# Altium schematic symbol library ADV7280.SchLib: 1 symbol
Pins are listed as number, name and electrical type; pins without a type are passive.

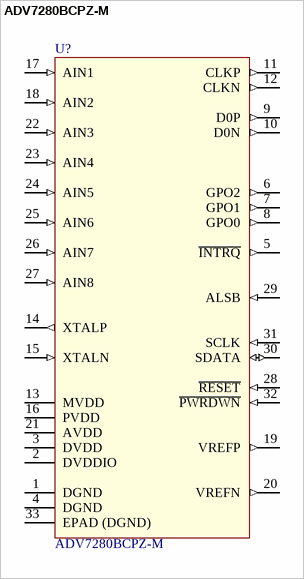
[diagram p0: symbol ADV7280BCPZ-M]

## ADV7280BCPZ-M
designator U?
10-Bit, 4xOversampling SDTV Video Decoder; Value: ADV7280BCPZ-M
footprint CP-32-12 (32-Lead Lead Frame Chip Scale Package 5?5mm Body, Very Very Thin Quad  (CP-32-12))
pins: 1 DGND (power), 2 DVDDIO (power), 3 DVDD (power), 4 DGND (power), 5 ~{INTRQ} (out), 6 GPO2 (out), 7 GPO1 (out), 8 GPO0 (out), 9 D0P (out), 10 D0N (out), 11 CLKP (out), 12 CLKN (out), 13 MVDD (power), 14 XTALP (out), 15 XTALN (in), 16 PVDD (power), 17 AIN1 (in), 18 AIN2 (in), 19 VREFP (out), 20 VREFN (out), 21 AVDD (power), 22 AIN3 (in), 23 AIN4 (in), 24 AIN5 (in), 25 AIN6 (in), 26 AIN7 (in), 27 AIN8 (in), 28 ~{RESET} (in), 29 ALSB (in), 30 SDATA (io), 31 SCLK (in), 32 ~{PWRDWN} (in), 33 EPAD (DGND) (power)